# EAGLE library part SD-CARD_10P (library XP9300)
Micro SD card holder with switch, Push/Pull
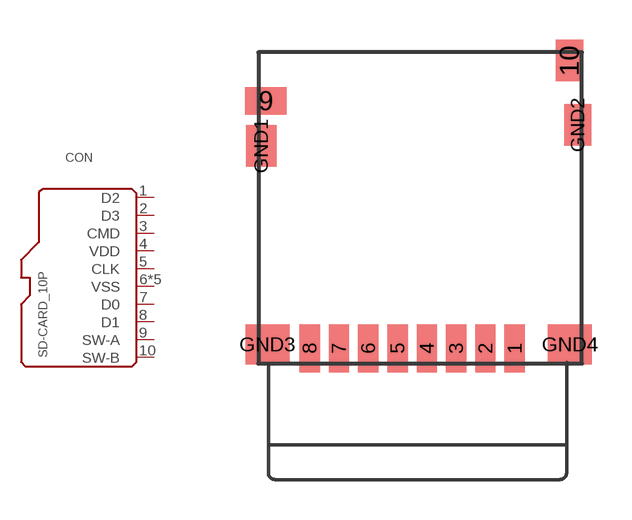
[diagram p3: symbol with the pads of CONN8_DM3D-SF_HIR; footprint CONN8_DM3D-SF_HIR]

Designator prefix CON

## SD-CARD_10P (DIGIKEY: HR1941CT-ND)  [CONN8_DM3D-SF_HIR]
1  D2
2  D3
3  CMD
4  VDD
5  CLK
6  VSS
7  D0
8  D1
9  SW-A
10  SW-B
GND1  VSS
GND2  VSS
GND3  VSS
GND4  VSS

## Footprint CONN8_DM3D-SF_HIR (pad centres in mm)
smd 0.762 x 1.803: 1 3.551,-5.271; 2 2.451,-5.271; 3 1.351,-5.271; 4 0.251,-5.271; 5 -0.849,-5.271; 6 -1.949,-5.271; 7 -3.049,-5.271; 8 -4.149,-5.271
smd 1.549 x 1.041: 9 -5.79,4.017
smd 1.041 x 1.549: 10 5.606,5.531
smd 1.143 x 1.549: GND1 -5.967,2.326
smd 1.016 x 1.549: GND2 5.914,3.117
smd 1.651 x 1.499: GND3 -5.732,-5.118; GND4 5.625,-5.118